# EAGLE library part MAX7313AEG (library maxim)
16-Port I/O Expander with LED Intensity Control, Interrupt, and Hot-Insertion Protection Source: http://datasheets.maxim-ic.com/en/ds/MAX7313.pdf
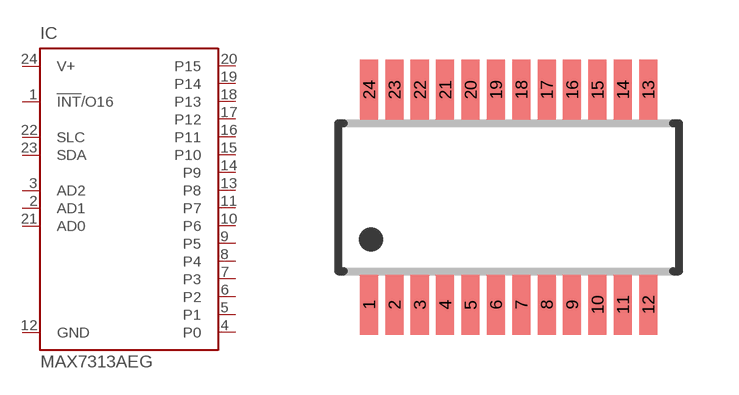
[diagram p0: symbol with the pads of QSOP24; footprint QSOP24]

Designator prefix IC

## MAX7313AEG (MPN: MAX7313AEG+; OC_FARNELL: unknown; OC_NEWARK: 53K7268)  [QSOP24]
1  !INT!/O16  oc
2  AD1  in
3  AD2  in
4  P0
5  P1
6  P2
7  P3
8  P4
9  P5
10  P6
11  P7
12  GND  pwr
13  P8
14  P9
15  P10
16  P11
17  P12
18  P13
19  P14
20  P15
21  AD0  in
22  SLC  in
23  SDA
24  V+  pwr

## Footprint QSOP24 (pad centres in mm)
QSOP 24 Source: http://datasheets.maxim-ic.com/en/ds/MAX7313.pdf
smd 0.45 x 1.5: 1 -3.493,-2.69; 2 -2.857,-2.69; 3 -2.223,-2.69; 4 -1.587,-2.69; 5 -0.953,-2.69; 6 -0.318,-2.69; 7 0.318,-2.69; 8 0.953,-2.69; 9 1.587,-2.69; 10 2.223,-2.69; 11 2.857,-2.69; 12 3.493,-2.69; 13 3.493,2.69; 14 2.857,2.69; 15 2.223,2.69; 16 1.587,2.69; 17 0.953,2.69; 18 0.318,2.69; 19 -0.318,2.69; 20 -0.953,2.69; 21 -1.587,2.69; 22 -2.223,2.69; 23 -2.857,2.69; 24 -3.493,2.69